# EAGLE library part ATMEGA128RFA1 (library SparkFun-RF-Modified)
Atmel 8-bit micro with 802.15.4 wireless support and 128k flash
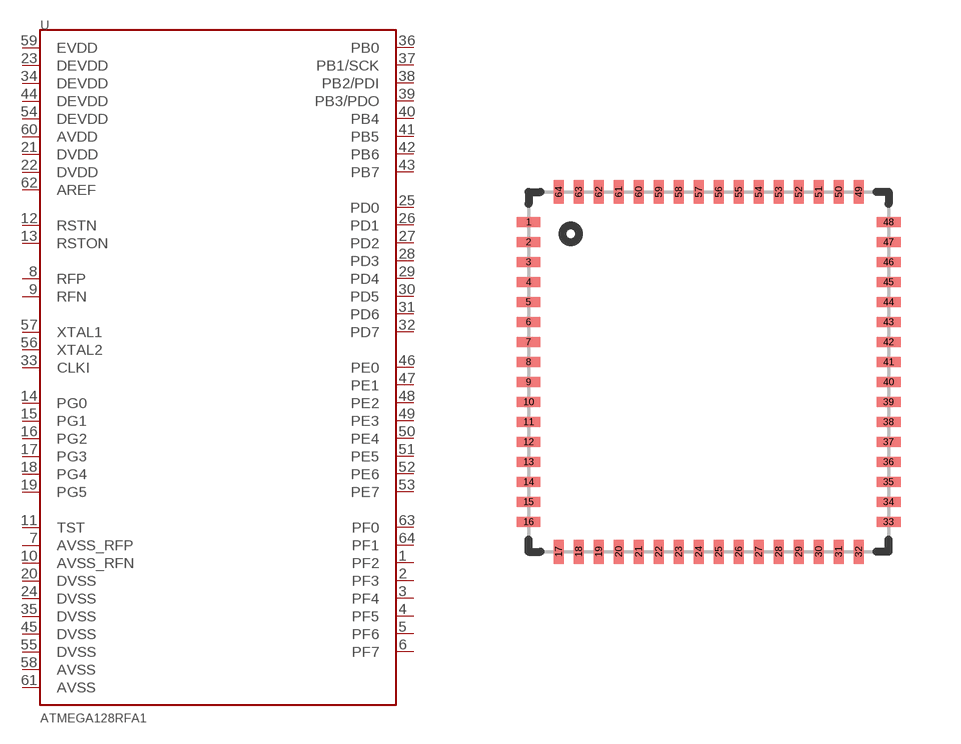
[diagram p1: symbol with the pads of QFN-64; footprint QFN-64]

Designator prefix U

## ATMEGA128RFA1  [QFN-64]
1  PF2
2  PF3
3  PF4
4  PF5
5  PF6
6  PF7
7  AVSS_RFP
8  RFP
9  RFN
10  AVSS_RFN
11  TST
12  RSTN
13  RSTON
14  PG0
15  PG1
16  PG2
17  PG3
18  PG4
19  PG5
20  DVSS
21  DVDD
22  DVDD
23  DEVDD
24  DVSS
25  PD0
26  PD1
27  PD2
28  PD3
29  PD4
30  PD5
31  PD6
32  PD7
33  CLKI
34  DEVDD
35  DVSS
36  PB0
37  PB1/SCK
38  PB2/PDI
39  PB3/PDO
40  PB4
41  PB5
42  PB6
43  PB7
44  DEVDD
45  DVSS
46  PE0
47  PE1
48  PE2
49  PE3
50  PE4
51  PE5
52  PE6
53  PE7
54  DEVDD
55  DVSS
56  XTAL2
57  XTAL1
58  AVSS
59  EVDD
60  AVDD
61  AVSS
62  AREF
63  PF0
64  PF1

## Footprint QFN-64 (pad centres in mm)
QFN package with a 6x8 pin configuration.
smd 0.6 x 0.25: 1 -4.5,3.75; 2 -4.5,3.25; 3 -4.5,2.75; 4 -4.5,2.25; 5 -4.5,1.75; 6 -4.5,1.25; 7 -4.5,0.75; 8 -4.5,0.25; 9 -4.5,-0.25; 10 -4.5,-0.75; 11 -4.5,-1.25; 12 -4.5,-1.75; 13 -4.5,-2.25; 14 -4.5,-2.75; 15 -4.5,-3.25; 16 -4.5,-3.75; 33 4.5,-3.75; 34 4.5,-3.25; 35 4.5,-2.75; 36 4.5,-2.25; 37 4.5,-1.75; 38 4.5,-1.25; 39 4.5,-0.75; 40 4.5,-0.25; 41 4.5,0.25; 42 4.5,0.75; 43 4.5,1.25; 44 4.5,1.75; 45 4.5,2.25; 46 4.5,2.75; 47 4.5,3.25; 48 4.5,3.75
smd 0.25 x 0.6: 17 -3.75,-4.5; 18 -3.25,-4.5; 19 -2.75,-4.5; 20 -2.25,-4.5; 21 -1.75,-4.5; 22 -1.25,-4.5; 23 -0.75,-4.5; 24 -0.25,-4.5; 25 0.25,-4.5; 26 0.75,-4.5; 27 1.25,-4.5; 28 1.75,-4.5; 29 2.25,-4.5; 30 2.75,-4.5; 31 3.25,-4.5; 32 3.75,-4.5; 49 3.75,4.5; 50 3.25,4.5; 51 2.75,4.5; 52 2.25,4.5; 53 1.75,4.5; 54 1.25,4.5; 55 0.75,4.5; 56 0.25,4.5; 57 -0.25,4.5; 58 -0.75,4.5; 59 -1.25,4.5; 60 -1.75,4.5; 61 -2.25,4.5; 62 -2.75,4.5; 63 -3.25,4.5; 64 -3.75,4.5